# EAGLE library part OSD3358-512M-BCB (library Octavo-Systems OSDZU3)
Octavo Systems LLC OSD335x Family SiP: 27mm x 27mm, 1.27mm pitch 400 pin BGA contains AM3358, 512MB DDR3, TPS65217, TL5209, 4KB EEPROM, 4GB eMMC, 24MHz oscillator, and passives. Commerical Temperature (case): 0C to 85C.
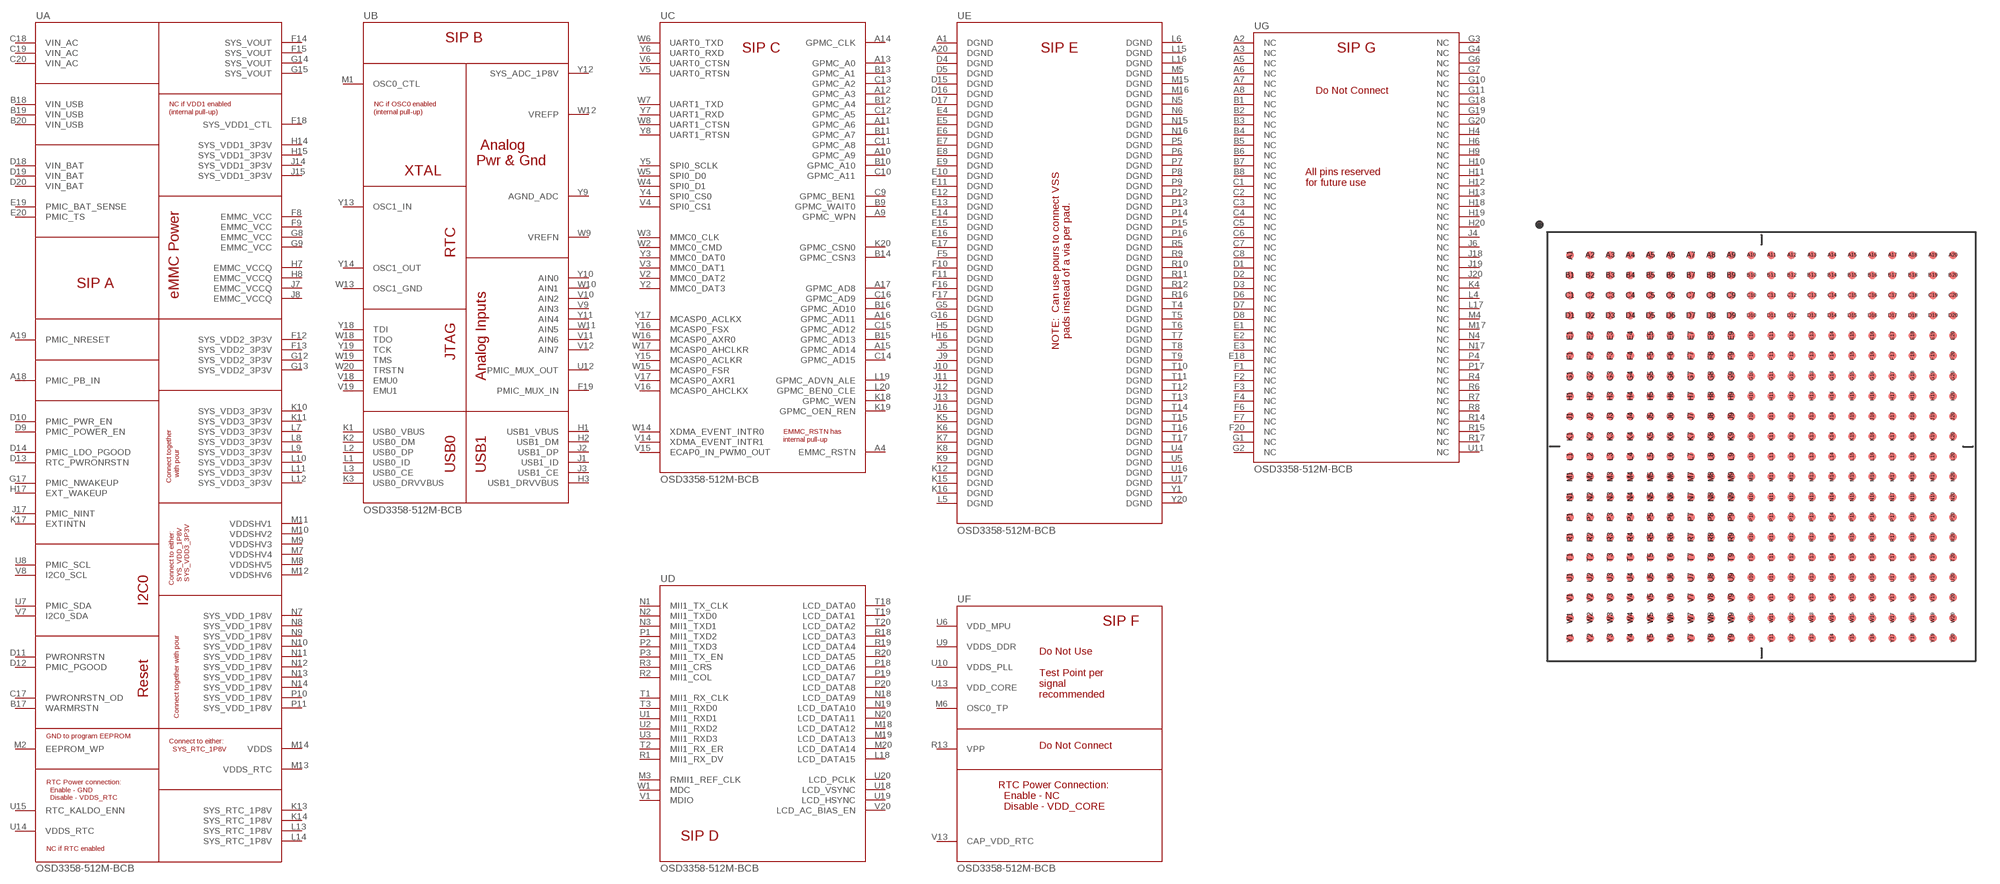
[diagram p2: symbol with the pads of OSD335X-BGA-400; footprint OSD335X-BGA-400]

Designator prefix U; gates A=OSD335X-CSIP-LOGICAL-A B=OSD335X-CSIP-LOGICAL-B C=OSD335X-CSIP-LOGICAL-C D=OSD335X-CSIP-LOGICAL-D F=OSD335X-CSIP-LOGICAL-F G=OSD335X-CSIP-LOGICAL-G E=OSD335X-CSIP-LOGICAL-E

## OSD3358-512M-BCB  [OSD335X-BGA-400]
A1  E:DGND
A2  G:NC
A3  G:NC
A4  C:EMMC_RSTN
A5  G:NC
A6  G:NC
A7  G:NC
A8  G:NC
A9  C:GPMC_WPN
A10  C:GPMC_A9
A11  C:GPMC_A6
A12  C:GPMC_A3
A13  C:GPMC_A0
A14  C:GPMC_CLK
A15  C:GPMC_AD14
A16  C:GPMC_AD11
A17  C:GPMC_AD8
A18  A:PMIC_PB_IN
A19  A:PMIC_NRESET
A20  E:DGND
B1  G:NC
B2  G:NC
B3  G:NC
B4  G:NC
B5  G:NC
B6  G:NC
B7  G:NC
B8  G:NC
B9  C:GPMC_WAIT0
B10  C:GPMC_A10
B11  C:GPMC_A7
B12  C:GPMC_A4
B13  C:GPMC_A1
B14  C:GPMC_CSN3
B15  C:GPMC_AD13
B16  C:GPMC_AD10
B17  A:WARMRSTN
B18  A:VIN_USB  pwr
B19  A:VIN_USB  pwr
B20  A:VIN_USB  pwr
C1  G:NC
C2  G:NC
C3  G:NC
C4  G:NC
C5  G:NC
C6  G:NC
C7  G:NC
C8  G:NC
C9  C:GPMC_BEN1
C10  C:GPMC_A11
C11  C:GPMC_A8
C12  C:GPMC_A5
C13  C:GPMC_A2
C14  C:GPMC_AD15
C15  C:GPMC_AD12
C16  C:GPMC_AD9
C17  A:PWRONRSTN_OD
C18  A:VIN_AC  pwr
C19  A:VIN_AC  pwr
C20  A:VIN_AC  pwr
D1  G:NC
D2  G:NC
D3  G:NC
D4  E:DGND
D5  E:DGND
D6  G:NC
D7  G:NC
D8  G:NC
D9  A:PMIC_POWER_EN  out
D10  A:PMIC_PWR_EN  in
D11  A:PWRONRSTN
D12  A:PMIC_PGOOD  out
D13  A:RTC_PWRONRSTN
D14  A:PMIC_LDO_PGOOD  out
D15  E:DGND
D16  E:DGND
D17  E:DGND
D18  A:VIN_BAT  pwr
D19  A:VIN_BAT  pwr
D20  A:VIN_BAT  pwr
E1  G:NC
E2  G:NC
E3  G:NC
E4  E:DGND
E5  E:DGND
E6  E:DGND
E7  E:DGND
E8  E:DGND
E9  E:DGND
E10  E:DGND
E11  E:DGND
E12  E:DGND
E13  E:DGND
E14  E:DGND
E15  E:DGND
E16  E:DGND
E17  E:DGND
E18  G:NC
E19  A:PMIC_BAT_SENSE
E20  A:PMIC_TS
F1  G:NC
F2  G:NC
F3  G:NC
F4  G:NC
F5  E:DGND
F6  G:NC
F7  G:NC
F8  A:EMMC_VCC
F9  A:EMMC_VCC
F10  E:DGND
F11  E:DGND
F12  A:SYS_VDD2_3P3V  pwr
F13  A:SYS_VDD2_3P3V  pwr
F14  A:SYS_VOUT  pwr
F15  A:SYS_VOUT  pwr
F16  E:DGND
F17  E:DGND
F18  A:SYS_VDD1_CTL
F19  B:PMIC_MUX_IN
F20  G:NC
G1  G:NC
G2  G:NC
G3  G:NC
G4  G:NC
G5  E:DGND
G6  G:NC
G7  G:NC
G8  A:EMMC_VCC
G9  A:EMMC_VCC
G10  G:NC
G11  G:NC
G12  A:SYS_VDD2_3P3V  pwr
G13  A:SYS_VDD2_3P3V  pwr
G14  A:SYS_VOUT  pwr
G15  A:SYS_VOUT  pwr
G16  E:DGND
G17  A:PMIC_NWAKEUP  out
G18  G:NC
G19  G:NC
G20  G:NC
H1  B:USB1_VBUS
H2  B:USB1_DM
H3  B:USB1_DRVVBUS
H4  G:NC
H5  E:DGND
H6  G:NC
H7  A:EMMC_VCCQ
H8  A:EMMC_VCCQ
H9  G:NC
H10  G:NC
H11  G:NC
H12  G:NC
H13  G:NC
H14  A:SYS_VDD1_3P3V  pwr
H15  A:SYS_VDD1_3P3V  pwr
H16  E:DGND
H17  A:EXT_WAKEUP
H18  G:NC
H19  G:NC
H20  G:NC
J1  B:USB1_ID
J2  B:USB1_DP
J3  B:USB1_CE
J4  G:NC
J5  E:DGND
J6  G:NC
J7  A:EMMC_VCCQ
J8  A:EMMC_VCCQ
J9  E:DGND
J10  E:DGND
J11  E:DGND
J12  E:DGND
J13  E:DGND
J14  A:SYS_VDD1_3P3V  pwr
J15  A:SYS_VDD1_3P3V  pwr
J16  E:DGND
J17  A:PMIC_NINT  out
J18  G:NC
J19  G:NC
J20  G:NC
K1  B:USB0_VBUS
K2  B:USB0_DM
K3  B:USB0_DRVVBUS
K4  G:NC
K5  E:DGND
K6  E:DGND
K7  E:DGND
K8  E:DGND
K9  E:DGND
K10  A:SYS_VDD3_3P3V  pwr
K11  A:SYS_VDD3_3P3V  pwr
K12  E:DGND
K13  A:SYS_RTC_1P8V  pwr
K14  A:SYS_RTC_1P8V  pwr
K15  E:DGND
K16  E:DGND
K17  A:EXTINTN
K18  C:GPMC_WEN
K19  C:GPMC_OEN_REN
K20  C:GPMC_CSN0
L1  B:USB0_ID
L2  B:USB0_DP
L3  B:USB0_CE
L4  G:NC
L5  E:DGND
L6  E:DGND
L7  A:SYS_VDD3_3P3V  pwr
L8  A:SYS_VDD3_3P3V  pwr
L9  A:SYS_VDD3_3P3V  pwr
L10  A:SYS_VDD3_3P3V  pwr
L11  A:SYS_VDD3_3P3V  pwr
L12  A:SYS_VDD3_3P3V  pwr
L13  A:SYS_RTC_1P8V  pwr
L14  A:SYS_RTC_1P8V  pwr
L15  E:DGND
L16  E:DGND
L17  G:NC
L18  D:LCD_DATA15
L19  C:GPMC_ADVN_ALE
L20  C:GPMC_BEN0_CLE
M1  B:OSC0_CTL
M2  A:EEPROM_WP
M3  D:RMII1_REF_CLK
M4  G:NC
M5  E:DGND
M6  F:OSC0_TP  out
M7  A:VDDSHV4  pwr
M8  A:VDDSHV5  pwr
M9  A:VDDSHV3  pwr
M10  A:VDDSHV2  pwr
M11  A:VDDSHV1  pwr
M12  A:VDDSHV6  pwr
M13  A:VDDS_RTC
M14  A:VDDS
M15  E:DGND
M16  E:DGND
M17  G:NC
M18  D:LCD_DATA12
M19  D:LCD_DATA13
M20  D:LCD_DATA14
N1  D:MII1_TX_CLK
N2  D:MII1_TXD0
N3  D:MII1_TXD1
N4  G:NC
N5  E:DGND
N6  E:DGND
N7  A:SYS_VDD_1P8V  pwr
N8  A:SYS_VDD_1P8V  pwr
N9  A:SYS_VDD_1P8V  pwr
N10  A:SYS_VDD_1P8V  pwr
N11  A:SYS_VDD_1P8V  pwr
N12  A:SYS_VDD_1P8V  pwr
N13  A:SYS_VDD_1P8V  pwr
N14  A:SYS_VDD_1P8V  pwr
N15  E:DGND
N16  E:DGND
N17  G:NC
N18  D:LCD_DATA9
N19  D:LCD_DATA10
N20  D:LCD_DATA11
P1  D:MII1_TXD2
P2  D:MII1_TXD3
P3  D:MII1_TX_EN
P4  G:NC
P5  E:DGND
P6  E:DGND
P7  E:DGND
P8  E:DGND
P9  E:DGND
P10  A:SYS_VDD_1P8V  pwr
P11  A:SYS_VDD_1P8V  pwr
P12  E:DGND
P13  E:DGND
P14  E:DGND
P15  E:DGND
P16  E:DGND
P17  G:NC
P18  D:LCD_DATA6
P19  D:LCD_DATA7
P20  D:LCD_DATA8
R1  D:MII1_RX_DV
R2  D:MII1_COL
R3  D:MII1_CRS
R4  G:NC
R5  E:DGND
R6  G:NC
R7  G:NC
R8  G:NC
R9  E:DGND
R10  E:DGND
R11  E:DGND
R12  E:DGND
R13  F:VPP
R14  G:NC
R15  G:NC
R16  E:DGND
R17  G:NC
R18  D:LCD_DATA3
R19  D:LCD_DATA4
R20  D:LCD_DATA5
T1  D:MII1_RX_CLK
T2  D:MII1_RX_ER
T3  D:MII1_RXD0
T4  E:DGND
T5  E:DGND
T6  E:DGND
T7  E:DGND
T8  E:DGND
T9  E:DGND
T10  E:DGND
T11  E:DGND
T12  E:DGND
T13  E:DGND
T14  E:DGND
T15  E:DGND
T16  E:DGND
T17  E:DGND
T18  D:LCD_DATA0
T19  D:LCD_DATA1
T20  D:LCD_DATA2
U1  D:MII1_RXD1
U2  D:MII1_RXD2
U3  D:MII1_RXD3
U4  E:DGND
U5  E:DGND
U6  F:VDD_MPU  out
U7  A:PMIC_SDA
U8  A:PMIC_SCL
U9  F:VDDS_DDR  out
U10  F:VDDS_PLL  out
U11  G:NC
U12  B:PMIC_MUX_OUT
U13  F:VDD_CORE  out
U14  A:VDDS_RTC
U15  A:RTC_KALDO_ENN
U16  E:DGND
U17  E:DGND
U18  D:LCD_VSYNC
U19  D:LCD_HSYNC
U20  D:LCD_PCLK
V1  D:MDIO
V2  C:MMC0_DAT2
V3  C:MMC0_DAT1
V4  C:SPI0_CS1
V5  C:UART0_RTSN
V6  C:UART0_CTSN
V7  A:I2C0_SDA
V8  A:I2C0_SCL
V9  B:AIN3
V10  B:AIN2
V11  B:AIN6
V12  B:AIN7
V13  F:CAP_VDD_RTC
V14  C:XDMA_EVENT_INTR1
V15  C:ECAP0_IN_PWM0_OUT
V16  C:MCASP0_AHCLKX
V17  C:MCASP0_AXR1
V18  B:EMU0
V19  B:EMU1
V20  D:LCD_AC_BIAS_EN
W1  D:MDC
W2  C:MMC0_CMD
W3  C:MMC0_CLK
W4  C:SPI0_D1
W5  C:SPI0_D0
W6  C:UART0_TXD
W7  C:UART1_TXD
W8  C:UART1_CTSN
W9  B:VREFN
W10  B:AIN1
W11  B:AIN5
W12  B:VREFP
W13  B:OSC1_GND
W14  C:XDMA_EVENT_INTR0
W15  C:MCASP0_FSR
W16  C:MCASP0_AXR0
W17  C:MCASP0_AHCLKR
W18  B:TDO
W19  B:TMS
W20  B:TRSTN
Y1  E:DGND
Y2  C:MMC0_DAT3
Y3  C:MMC0_DAT0
Y4  C:SPI0_CS0
Y5  C:SPI0_SCLK
Y6  C:UART0_RXD
Y7  C:UART1_RXD
Y8  C:UART1_RTSN
Y9  B:AGND_ADC
Y10  B:AIN0
Y11  B:AIN4
Y12  B:SYS_ADC_1P8V
Y13  B:OSC1_IN
Y14  B:OSC1_OUT
Y15  C:MCASP0_ACLKR
Y16  C:MCASP0_FSX
Y17  C:MCASP0_ACLKX
Y18  B:TDI
Y19  B:TCK
Y20  E:DGND

## Footprint OSD335X-BGA-400 (pad centres in mm)
smd 0.5 x 0.5: A1 -12.065,12.065; A2 -10.795,12.065; A3 -9.525,12.065; A4 -8.255,12.065; A5 -6.985,12.065; A6 -5.715,12.065; A7 -4.445,12.065; A8 -3.175,12.065; A9 -1.905,12.065; A10 -0.635,12.065; A11 0.635,12.065; A12 1.905,12.065; A13 3.175,12.065; A14 4.445,12.065; A15 5.715,12.065; A16 6.985,12.065; A17 8.255,12.065; A18 9.525,12.065; A19 10.795,12.065; A20 12.065,12.065; B1 -12.065,10.795; B2 -10.795,10.795; B3 -9.525,10.795; B4 -8.255,10.795; B5 -6.985,10.795; B6 -5.715,10.795; B7 -4.445,10.795; B8 -3.175,10.795; B9 -1.905,10.795; B10 -0.635,10.795; B11 0.635,10.795; B12 1.905,10.795; B13 3.175,10.795; B14 4.445,10.795; B15 5.715,10.795; B16 6.985,10.795; B17 8.255,10.795; B18 9.525,10.795; B19 10.795,10.795; B20 12.065,10.795; C1 -12.065,9.525; C2 -10.795,9.525; C3 -9.525,9.525; C4 -8.255,9.525; C5 -6.985,9.525; C6 -5.715,9.525; C7 -4.445,9.525; C8 -3.175,9.525; C9 -1.905,9.525; C10 -0.635,9.525; C11 0.635,9.525; C12 1.905,9.525; C13 3.175,9.525; C14 4.445,9.525; C15 5.715,9.525; C16 6.985,9.525; C17 8.255,9.525; C18 9.525,9.525; C19 10.795,9.525; C20 12.065,9.525; D1 -12.065,8.255; D2 -10.795,8.255; D3 -9.525,8.255; D4 -8.255,8.255; D5 -6.985,8.255; D6 -5.715,8.255; D7 -4.445,8.255; D8 -3.175,8.255; D9 -1.905,8.255; D10 -0.635,8.255; D11 0.635,8.255; D12 1.905,8.255; D13 3.175,8.255; D14 4.445,8.255; D15 5.715,8.255; D16 6.985,8.255; D17 8.255,8.255; D18 9.525,8.255; D19 10.795,8.255; D20 12.065,8.255; E1 -12.065,6.985; E2 -10.795,6.985; E3 -9.525,6.985; E4 -8.255,6.985; E5 -6.985,6.985; E6 -5.715,6.985; E7 -4.445,6.985; E8 -3.175,6.985; E9 -1.905,6.985; E10 -0.635,6.985; E11 0.635,6.985; E12 1.905,6.985; E13 3.175,6.985; E14 4.445,6.985; E15 5.715,6.985; E16 6.985,6.985; E17 8.255,6.985; E18 9.525,6.985; E19 10.795,6.985; E20 12.065,6.985; F1 -12.065,5.715; F2 -10.795,5.715; F3 -9.525,5.715; F4 -8.255,5.715; F5 -6.985,5.715; F6 -5.715,5.715; F7 -4.445,5.715; F8 -3.175,5.715; F9 -1.905,5.715; F10 -0.635,5.715; F11 0.635,5.715; F12 1.905,5.715; F13 3.175,5.715; F14 4.445,5.715; F15 5.715,5.715; F16 6.985,5.715; F17 8.255,5.715; F18 9.525,5.715; F19 10.795,5.715; F20 12.065,5.715; G1 -12.065,4.445; G2 -10.795,4.445; G3 -9.525,4.445; G4 -8.255,4.445; G5 -6.985,4.445; G6 -5.715,4.445; G7 -4.445,4.445; G8 -3.175,4.445; G9 -1.905,4.445; G10 -0.635,4.445; G11 0.635,4.445; G12 1.905,4.445; G13 3.175,4.445; G14 4.445,4.445; G15 5.715,4.445; G16 6.985,4.445; G17 8.255,4.445; G18 9.525,4.445; G19 10.795,4.445; G20 12.065,4.445; H1 -12.065,3.175; H2 -10.795,3.175; H3 -9.525,3.175; H4 -8.255,3.175; H5 -6.985,3.175; H6 -5.715,3.175; H7 -4.445,3.175; H8 -3.175,3.175; H9 -1.905,3.175; H10 -0.635,3.175; H11 0.635,3.175; H12 1.905,3.175; H13 3.175,3.175; H14 4.445,3.175; H15 5.715,3.175; H16 6.985,3.175; H17 8.255,3.175; H18 9.525,3.175; H19 10.795,3.175; H20 12.065,3.175; J1 -12.065,1.905; J2 -10.795,1.905; J3 -9.525,1.905; J4 -8.255,1.905; J5 -6.985,1.905; J6 -5.715,1.905; J7 -4.445,1.905; J8 -3.175,1.905; J9 -1.905,1.905; J10 -0.635,1.905; J11 0.635,1.905; J12 1.905,1.905; J13 3.175,1.905; J14 4.445,1.905; J15 5.715,1.905; J16 6.985,1.905; J17 8.255,1.905; J18 9.525,1.905; J19 10.795,1.905; J20 12.065,1.905; K1 -12.065,0.635; K2 -10.795,0.635; K3 -9.525,0.635; K4 -8.255,0.635; K5 -6.985,0.635; K6 -5.715,0.635; K7 -4.445,0.635; K8 -3.175,0.635; K9 -1.905,0.635; K10 -0.635,0.635; K11 0.635,0.635; K12 1.905,0.635; K13 3.175,0.635; K14 4.445,0.635; K15 5.715,0.635; K16 6.985,0.635; K17 8.255,0.635; K18 9.525,0.635; K19 10.795,0.635; K20 12.065,0.635; L1 -12.065,-0.635; L2 -10.795,-0.635; L3 -9.525,-0.635; L4 -8.255,-0.635; L5 -6.985,-0.635; L6 -5.715,-0.635; L7 -4.445,-0.635; L8 -3.175,-0.635; L9 -1.905,-0.635; L10 -0.635,-0.635; L11 0.635,-0.635; L12 1.905,-0.635; L13 3.175,-0.635; L14 4.445,-0.635; L15 5.715,-0.635; L16 6.985,-0.635; L17 8.255,-0.635; L18 9.525,-0.635; L19 10.795,-0.635; L20 12.065,-0.635; M1 -12.065,-1.905; M2 -10.795,-1.905; M3 -9.525,-1.905; M4 -8.255,-1.905; M5 -6.985,-1.905; M6 -5.715,-1.905; M7 -4.445,-1.905; M8 -3.175,-1.905; M9 -1.905,-1.905; M10 -0.635,-1.905; M11 0.635,-1.905; M12 1.905,-1.905; M13 3.175,-1.905; M14 4.445,-1.905; M15 5.715,-1.905; M16 6.985,-1.905; M17 8.255,-1.905; M18 9.525,-1.905; M19 10.795,-1.905; M20 12.065,-1.905; N1 -12.065,-3.175; N2 -10.795,-3.175; N3 -9.525,-3.175; N4 -8.255,-3.175; N5 -6.985,-3.175; N6 -5.715,-3.175; N7 -4.445,-3.175; N8 -3.175,-3.175; N9 -1.905,-3.175; N10 -0.635,-3.175; N11 0.635,-3.175; N12 1.905,-3.175; N13 3.175,-3.175; N14 4.445,-3.175; N15 5.715,-3.175; N16 6.985,-3.175; N17 8.255,-3.175; N18 9.525,-3.175; N19 10.795,-3.175; N20 12.065,-3.175; P1 -12.065,-4.445; P2 -10.795,-4.445; P3 -9.525,-4.445; P4 -8.255,-4.445; P5 -6.985,-4.445; P6 -5.715,-4.445; P7 -4.445,-4.445; P8 -3.175,-4.445; P9 -1.905,-4.445; P10 -0.635,-4.445; P11 0.635,-4.445; P12 1.905,-4.445; P13 3.175,-4.445; P14 4.445,-4.445; P15 5.715,-4.445; P16 6.985,-4.445; P17 8.255,-4.445; P18 9.525,-4.445; P19 10.795,-4.445; P20 12.065,-4.445; R1 -12.065,-5.715; R2 -10.795,-5.715; R3 -9.525,-5.715; R4 -8.255,-5.715; R5 -6.985,-5.715; R6 -5.715,-5.715; R7 -4.445,-5.715; R8 -3.175,-5.715; R9 -1.905,-5.715; R10 -0.635,-5.715; R11 0.635,-5.715; R12 1.905,-5.715; R13 3.175,-5.715; R14 4.445,-5.715; R15 5.715,-5.715; R16 6.985,-5.715; R17 8.255,-5.715; R18 9.525,-5.715; R19 10.795,-5.715; R20 12.065,-5.715; T1 -12.065,-6.985; T2 -10.795,-6.985; T3 -9.525,-6.985; T4 -8.255,-6.985; T5 -6.985,-6.985; T6 -5.715,-6.985; T7 -4.445,-6.985; T8 -3.175,-6.985; T9 -1.905,-6.985; T10 -0.635,-6.985; T11 0.635,-6.985; T12 1.905,-6.985; T13 3.175,-6.985; T14 4.445,-6.985; T15 5.715,-6.985; T16 6.985,-6.985; T17 8.255,-6.985; T18 9.525,-6.985; T19 10.795,-6.985; T20 12.065,-6.985; U1 -12.065,-8.255; U2 -10.795,-8.255; U3 -9.525,-8.255; U4 -8.255,-8.255; U5 -6.985,-8.255; U6 -5.715,-8.255; U7 -4.445,-8.255; U8 -3.175,-8.255; U9 -1.905,-8.255; U10 -0.635,-8.255; U11 0.635,-8.255; U12 1.905,-8.255; U13 3.175,-8.255; U14 4.445,-8.255; U15 5.715,-8.255; U16 6.985,-8.255; U17 8.255,-8.255; U18 9.525,-8.255; U19 10.795,-8.255; U20 12.065,-8.255; V1 -12.065,-9.525; V2 -10.795,-9.525; V3 -9.525,-9.525; V4 -8.255,-9.525; V5 -6.985,-9.525; V6 -5.715,-9.525; V7 -4.445,-9.525; V8 -3.175,-9.525; V9 -1.905,-9.525; V10 -0.635,-9.525; V11 0.635,-9.525; V12 1.905,-9.525; V13 3.175,-9.525; V14 4.445,-9.525; V15 5.715,-9.525; V16 6.985,-9.525; V17 8.255,-9.525; V18 9.525,-9.525; V19 10.795,-9.525; V20 12.065,-9.525; W1 -12.065,-10.795; W2 -10.795,-10.795; W3 -9.525,-10.795; W4 -8.255,-10.795; W5 -6.985,-10.795; W6 -5.715,-10.795; W7 -4.445,-10.795; W8 -3.175,-10.795; W9 -1.905,-10.795; W10 -0.635,-10.795; W11 0.635,-10.795; W12 1.905,-10.795; W13 3.175,-10.795; W14 4.445,-10.795; W15 5.715,-10.795; W16 6.985,-10.795; W17 8.255,-10.795; W18 9.525,-10.795; W19 10.795,-10.795; W20 12.065,-10.795; Y1 -12.065,-12.065; Y2 -10.795,-12.065; Y3 -9.525,-12.065; Y4 -8.255,-12.065; Y5 -6.985,-12.065; Y6 -5.715,-12.065; Y7 -4.445,-12.065; Y8 -3.175,-12.065; Y9 -1.905,-12.065; Y10 -0.635,-12.065; Y11 0.635,-12.065; Y12 1.905,-12.065; Y13 3.175,-12.065; Y14 4.445,-12.065; Y15 5.715,-12.065; Y16 6.985,-12.065; Y17 8.255,-12.065; Y18 9.525,-12.065; Y19 10.795,-12.065; Y20 12.065,-12.065